# Altium schematic symbol library SMF2000.SchLib: 1 symbol
Pins are listed as number, name and electrical type; pins without a type are passive.

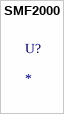
[diagram p0: symbol SMF2000]

## SMF2000
designator U?